# Altium schematic symbol library PMA2-183LN+.SchLib: 1 symbol
Pins are listed as number, name and electrical type; pins without a type are passive.

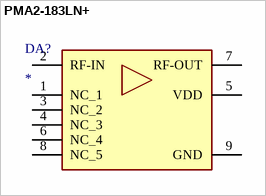
[diagram p0: symbol PMA2-183LN+]

## PMA2-183LN+
designator DA?
Integrated Circuit; Manufacturer_Name: Mini-Circuits; Manufacturer_Part_Number: PMA2-183LN+; Datasheet Link: https://www.minicircuits.com/pdfs/PMA2-183LN+.pdf; Height: 1.05mm; Mouser Part Number: 139-PMA2-183LN; Mouser Price/Stock: https://www.mouser.co.uk/ProductDetail/Mini-Circuits/PMA2-183LN%2b?qs=xZ%2FP%252Ba9zWqZi7Gn7MwtgMw%3D%3D
footprint SON50P200X200X105-9N-D
pins: 1 NC_1, 2 RF-IN, 3 NC_2, 4 NC_3, 5 VDD, 6 NC_4, 7 RF-OUT, 8 NC_5, 9 GND